# Altium schematic symbol library FPGA_clock_gen.SchLib: 2 symbols
Pins are listed as number, name and electrical type; pins without a type are passive.

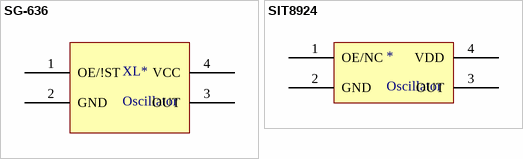
[diagram p0: symbols SG-636 to SIT8924]

## SG-636
designator XL*, comment Oscillator
Oscillator (55 MHz)
footprint SG-636 (Clock Oscillator 55 MHz)
pins: 1 OE/!ST, 2 GND, 3 OUT, 4 VCC

## SIT8924
designator *, comment Oscillator
SiTime Oscillator (50 MHz); Dimension: 0.098" L x 0.079" W x H 0.032"  (2.50mm x 2.00mm x 0.80mm)
footprint SIT8924 (SiTIME Clock Oscillator (50 MHz))
pins: 1 OE/NC, 2 GND, 3 OUT, 4 VDD